# Altium schematic symbol library MIC.SchLib: 1 symbol
Pins are listed as number, name and electrical type; pins without a type are passive.

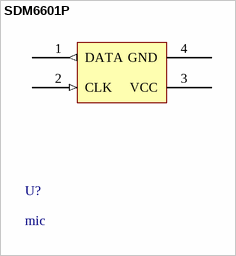
[diagram p0: symbol SDM6601P]

## SDM6601P
designator U?, comment mic
footprint SDM6601
pins: 1 DATA (out), 2 CLK (in), 3 VCC (power), 4 GND (power)